# Altium schematic symbol library CUI Barrel Jack.SchLib: 1 symbol
Pins are listed as number, name and electrical type; pins without a type are passive.

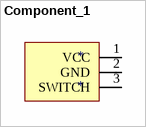
[diagram p0: symbol Component_1]

## Component_1
designator *
footprint BARREL JACK PJ007 (Pin connections for Barrel Jack)
pins: 1 VCC, 2 GND, 3 SWITCH